# EAGLE library part PTR90 (library Kuga2_parts)
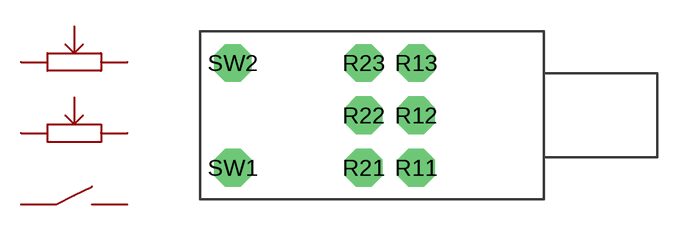
[diagram p2: symbol with the pads of PTR902; footprint PTR902]

Designator prefix -; gates RT1=PTR90 RT2=PTR90 RTSW=PTR90-SW

## PTR90  [PTR902]
R11  RT1:11
R12  RT1:12
R13  RT1:13
R21  RT2:11
R22  RT2:12
R23  RT2:13
SW1  RTSW:11
SW2  RTSW:12

## Footprint PTR902 (pad centres in mm)
drill 1.2 octagon: R11 2.5,-2.5; R12 2.5,0; R13 2.5,2.5; R21 0,-2.5; R22 0,0; R23 0,2.5; SW1 -6.25,-2.5; SW2 -6.25,2.5